# EAGLE library part PCF8575C (library PCFF8575C)
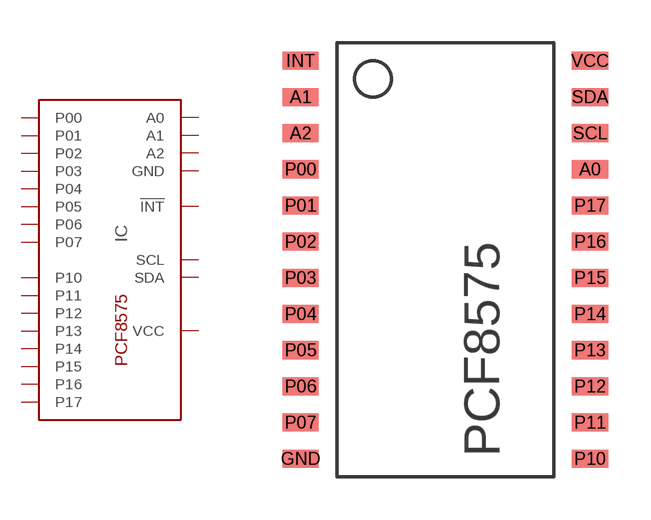
[diagram p0: symbol with the pads of SOP24; footprint SOP24]

Designator prefix IC

## PCF8575C  [SOP24]
A0  A0  in
A1  A1  in
A2  A2  in
GND  GND  pwr
INT  !INT  oc
P00  P00
P01  P01
P02  P02
P03  P03
P04  P04
P05  P05
P06  P06
P07  P07
P10  P10
P11  P11
P12  P12
P13  P13
P14  P14
P15  P15
P16  P16
P17  P17
SCL  SCL  in
SDA  SDA
VCC  VCC  pwr

## Footprint SOP24 (pad centres in mm)
smd 1.27 x 0.635: A0 8.89,10.795; A1 -1.27,13.335; A2 -1.27,12.065; GND -1.27,0.635; INT -1.27,14.605; P00 -1.27,10.795; P01 -1.27,9.525; P02 -1.27,8.255; P03 -1.27,6.985; P04 -1.27,5.715; P05 -1.27,4.445; P06 -1.27,3.175; P07 -1.27,1.905; P10 8.89,0.635; P11 8.89,1.905; P12 8.89,3.175; P13 8.89,4.445; P14 8.89,5.715; P15 8.89,6.985; P16 8.89,8.255; P17 8.89,9.525; SCL 8.89,12.065; SDA 8.89,13.335; VCC 8.89,14.605